# Altium schematic symbol library TPD6E001RSFR.SchLib: 1 symbol
Pins are listed as number, name and electrical type; pins without a type are passive.

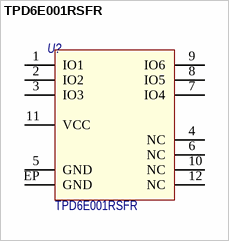
[diagram p0: symbol TPD6E001RSFR]

## TPD6E001RSFR
designator U?
6-Channel ESD-Protection for High-Speed Data Interfaces; Потребление, Вт: 0.0; Назначение: 6-Channel ESD-Protection; Наименование: TPD6E001RSFR
footprint WQFN-12_EP_4x4_0.8mm (Footprint not found)
pins: 1 IO1, 2 IO2, 3 IO3, 4 NC, 5 GND, 6 NC, 7 IO4, 8 IO5, 9 IO6, 10 NC, 11 VCC, 12 NC, EP GND